# EAGLE library part ATTINY24 (library IC)
http://search.digikey.com/scripts/DkSearch/dksus.dll?vendor=0&keywords=ATTINY24
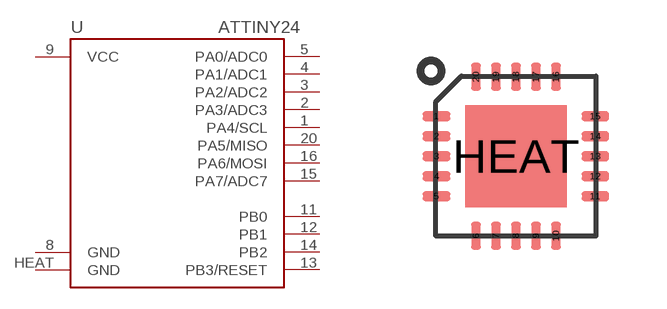
[diagram p35: symbol with the pads of QFN20; footprint QFN20]

Designator prefix U

## ATTINY24-QFN20  [QFN20]
1  PA4/SCL
2  PA3/ADC3
3  PA2/ADC2
4  PA1/ADC1
5  PA0/ADC0
8  GND
9  VCC
11  PB0
12  PB1
13  PB3/RESET
14  PB2
15  PA7/ADC7
16  PA6/MOSI
20  PA5/MISO
HEAT  GND

## Footprint QFN20 (pad centres in mm)
smd 0.686 x 0.241: 1 -3.986,1.25; 2 -3.986,0.75; 3 -3.986,0.25; 4 -3.986,-0.25; 5 -3.986,-0.75; 11 -0.013,-0.75; 12 -0.013,-0.25; 13 -0.013,0.25; 14 -0.013,0.75; 15 -0.013,1.25
smd 0.241 x 0.686: 6 -3,-1.736; 7 -2.5,-1.736; 8 -2,-1.736; 9 -1.5,-1.736; 10 -1,-1.736; 16 -1,2.236; 17 -1.5,2.236; 18 -2,2.236; 19 -2.5,2.236; 20 -3,2.236
smd 2.54 x 2.54: HEAT -2,0.25